# EAGLE library part HIF3FB-10DA-2.54DSA (library h8-conector)
Hirose Connector HIF3FB-10DA-2.54DSA(71) Can be used with 2.54mm Hirose ML Connector Documentary and Datasheet: https://www.hirose.com/product/en/products/HIF3FC/HIF3FB%2D10DA%2D2.54DSA%2871%29/ Created by Hans Achterbahn (https://github.com/HansAchterbahn)
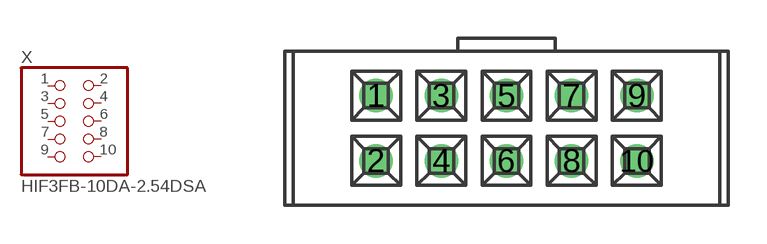
[diagram p1: symbol with the pads of HIF3FB-10DA-2.54DSA; footprint HIF3FB-10DA-2.54DSA]

Designator prefix X

## HIF3FB-10DA-2.54DSA (MF: Hirose; MPN: HIF3FB-10DA-2.54DSA(71))  [HIF3FB-10DA-2.54DSA]
1  1  pas
2  2  pas
3  3  pas
4  4  pas
5  5  pas
6  6  pas
7  7  pas
8  8  pas
9  9  pas
10  10  pas

## Footprint HIF3FB-10DA-2.54DSA (pad centres in mm)
drill 0.8: 1 -0.003,-0.003; 2 -0.003,-2.543; 3 2.537,-0.003; 4 2.537,-2.543; 5 5.077,-0.003; 6 5.077,-2.543; 7 7.617,-0.003; 8 7.617,-2.543; 9 10.157,-0.003; 10 10.157,-2.543